# EAGLE library part AP64351 (library pi3_hat)
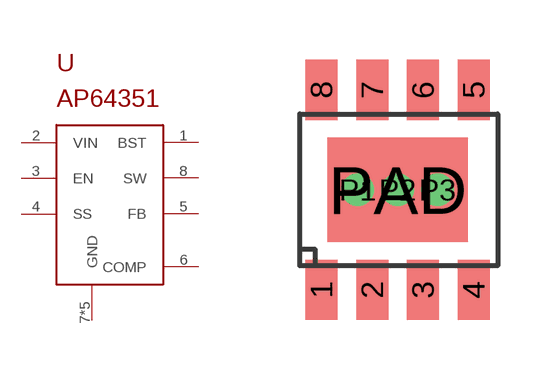
[diagram p4: symbol with the pads of SO-8EP; footprint SO-8EP]

Designator prefix U

## AP64351SO8EP (MF: DIODES INC; MPN: AP64350SP-13; POPULATE: 1)  [SO-8EP]
1  BST
2  VIN
3  EN
4  SS
5  FB
6  COMP
7  GND
8  SW
P1  GND
P2  GND
P3  GND
PAD  GND

## Footprint SO-8EP (pad centres in mm)
smd 0.802 x 1.505: 1 -1.905,-2.5; 2 -0.635,-2.5; 3 0.635,-2.5; 4 1.905,-2.5; 5 1.905,2.5; 6 0.635,2.5; 7 -0.635,2.5; 8 -1.905,2.5
drill 0.305: P1 -1,0; P2 0,0; P3 1,0
smd 3.502 x 2.613: PAD 0,0